# Altium schematic symbol library Resistor^Capacitor^Inductor.SchLib: 27 symbols
Pins are listed as number, name and electrical type; pins without a type are passive.

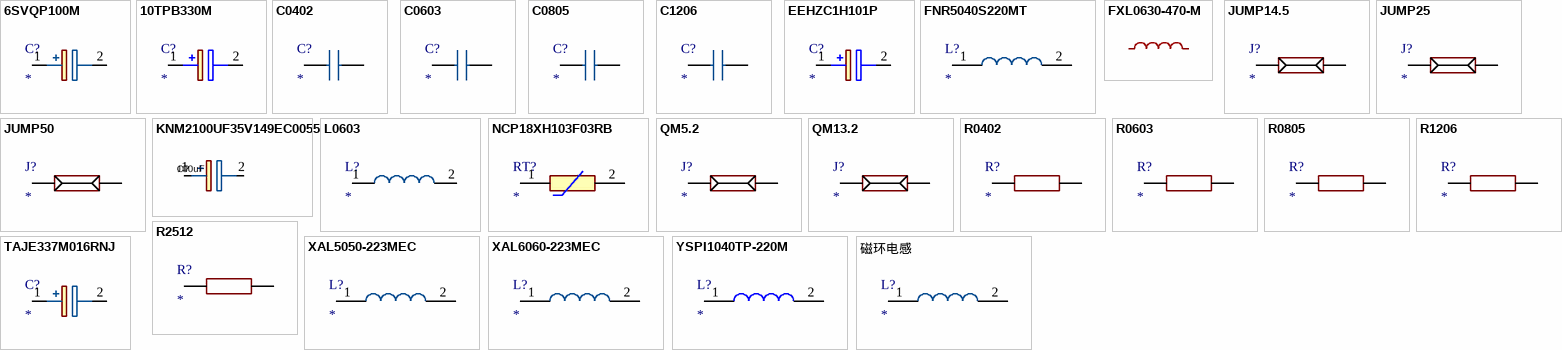
[diagram p0: symbols 6SVQP100M to 磁环电感]

## 6SVQP100M
designator C?
Capacitor Polarised; Manufacturer_Name: Panasonic; Manufacturer_Part_Number: 6SVQP100M; Datasheet Link: http://industrial.panasonic.com/cdbs/www-data/pdf/AAB8000/AAB8000C225.pdf; Height: 6mm; Mouser Part Number: 667-6SVQP100M; Mouser Price/Stock: https://www.mouser.co.uk/ProductDetail/Panasonic/6SVQP100M?qs=Gd3Cm49KlLNMtA4%252BBRbdEg%3D%3D; Arrow Part Number: 6SVQP100M; Arrow Price/Stock: https://www.arrow.com/en/products/6svqp100m/panasonic?region=nac
footprint 16SVF180M (Footprint not found)
pins: 1 +, 2 -

## 10TPB330M
designator C?
Capacitor Polarised; Manufacturer_Name: Panasonic; Manufacturer_Part_Number: 10TPB330M; Datasheet Link: http://industrial.panasonic.com/cdbs/www-data/pdf/AAA8000/AAA8000C65.pdf; Mouser Part Number: 667-10TPB330M; Mouser Price/Stock: https://www.mouser.co.uk/ProductDetail/Panasonic/10TPB330M?qs=OE1iw1LrrPGJ%2FhG9UwG4gg%3D%3D; Arrow Part Number: 10TPB330M; Arrow Price/Stock: https://www.arrow.com/en/products/10tpb330m/panasonic?region=nac
footprint POSCAP_D12_D15_D15E_D2E_D2_D3L_D4
pins: 1 +, 2 -

## C0402
designator C?
Capacitor; Manufacturer_Name: YAGEO; Manufacturer_Part_Number: CC0402KRX7R7BB104; Datasheet Link: https://www.yageo.com/en/Chart/Download/pdf/CC0402KRX7R7BB104; Height: 0.55mm; Mouser Part Number: 603-CC402KRX7R7BB104; Mouser Price/Stock: https://www.mouser.co.uk/ProductDetail/YAGEO/CC0402KRX7R7BB104?qs=AgBp2OyFlx%252BSOyhfyS7hpw%3D%3D; Arrow Part Number: CC0402KRX7R7BB104; Arrow Price/Stock: https://www.arrow.com/en/products/cc0402krx7r7bb104/yageo?region=nac
footprint CAPC1005X55N
pins: 1, 2

## C0603
designator C?
Capacitor; Manufacturer_Name: YAGEO; Manufacturer_Part_Number: CC0603KRX7R9BB104; Datasheet Link: https://componentsearchengine.com/Datasheets/2/CC0603KRX7R9BB104.pdf; Height: 0.9mm; Mouser Part Number: 603-CC603KRX7R9BB104; Mouser Price/Stock: https://www.mouser.co.uk/ProductDetail/YAGEO/CC0603KRX7R9BB104?qs=vTakOoo5QyLvVCYM2ge8LQ%3D%3D; Arrow Part Number: CC0603KRX7R9BB104; Arrow Price/Stock: https://www.arrow.com/en/products/cc0603krx7r9bb104/yageo?region=europe
footprint CAPC1608X90N
pins: 1, 2

## C0805
designator C?
Capacitor; Manufacturer_Name: YAGEO; Manufacturer_Part_Number: CC0805KRX7R9BB104; Datasheet Link: https://www.yageo.com/upload/media/product/productsearch/datasheet/mlcc/UPY-GPHC_X7R_6.3V-to-50V_20.pdf; Height: 0.95mm; Mouser Part Number: 603-CC805KRX7R9BB104; Mouser Price/Stock: https://www.mouser.co.uk/ProductDetail/YAGEO/CC0805KRX7R9BB104?qs=vTakOoo5QyLx0lXWgVtRhQ%3D%3D; Arrow Part Number: CC0805KRX7R9BB104; Arrow Price/Stock: https://www.arrow.com/en/products/cc0805krx7r9bb104/yageo?region=nac
footprint CAPC2012X95N
pins: 1, 2

## C1206
designator C?
Capacitor; Manufacturer_Name: YAGEO; Manufacturer_Part_Number: CC1206KRX7R9BB104; Datasheet Link: https://www.yageo.com/upload/media/product/productsearch/datasheet/mlcc/UPY-GPHC_X7R_6.3V-to-50V_20.pdf; Height: 0.95mm; Mouser Part Number: 603-CC206KRX7R9BB104; Mouser Price/Stock: https://www.mouser.co.uk/ProductDetail/YAGEO/CC1206KRX7R9BB104?qs=AgBp2OyFlx9LH1KRd7TZVQ%3D%3D; Arrow Part Number: CC1206KRX7R9BB104; Arrow Price/Stock: https://www.arrow.com/en/products/cc1206krx7r9bb104/yageo?utm_currency=USD&region=nac
footprint CAPC3216X95N
pins: 1, 2

## EEHZC1H101P
designator C?
Capacitor Polarised; Manufacturer_Name: Panasonic; Manufacturer_Part_Number: EEHZC1H101P; Datasheet Link: http://industrial.panasonic.com/cdbs/www-data/pdf/RDD0000/ABA0000C1234.pdf; Height: 10.5mm; Arrow Part Number: EEHZC1H101P; Arrow Price/Stock: https://www.arrow.com/en/products/eeh-zc1h101p/panasonic?utm_currency=USD&region=europe
footprint EEHZS1H221P
pins: 1 +, 2 -

## FNR5040S220MT
designator L?
Inductor; Manufacturer_Name: cjiang(Changjiang Microelectronics Tech); Manufacturer_Part_Number: FNR5040S2R2MT; Datasheet Link: https://datasheet.lcsc.com/szlcsc/1809181812_cjiang-Changjiang-Microelectronics-Tech-FNR5040S681MT_C167986.pdf; Height: 4mm
footprint FNR5040S2R2MT (Footprint not found)
pins: 1, 2

## FXL0630-470-M
designator L??, comment 47uH  (value not drawn)
Manufacturer: cjiang(长江微电); Symbol: FXL0630-470-M; Add into BOM: yes; Tolerance: ±20%; Rated Current: 1.5A; Saturation Current (Isat): 2A; DC Resistance (DCR): 385mΩ; Type: 一体成型电感; Device: FXL0630-470-M; LCSC Part Name: 47uH ±20% 2A; Supplier Part: C475913; Manufacturer Part: FXL0630-470-M; Supplier Footprint: SMD,6.6x7mm; JLCPCB Part Class: Extended Part; Datasheet: https://atta.szlcsc.com/upload/public/pdf/source/20240426/3189EA8206330E2108542F9E34E540E7.pdf; Supplier: LCSC; Convert to PCB: yes; Value: 47uH
footprint IND-SMD_L7.0-W6.6_FXL0630
pins: 1, 2

## JUMP14.5
designator J?
footprint JUMP14.5
pins: 1, 2

## JUMP25
designator J?
footprint JUMP25_Au
pins: 1, 2

## JUMP50
designator J?
footprint JUMP50
pins: 1, 2

## KNM2100UF35V149EC0055
designator C?, comment 100uF
Manufacturer: KNSCHA(科尼盛); Symbol: KNM2100UF35V149EC0055; Add into BOM: yes; Tolerance: ±20%; Rated Voltage: 35V; Ripple Current: 1.516A@100kHz; Equivalent Series Resistance(ESR): 80mΩ@100kHz; φD: 6.3mm; L: 7mm; Lifetime @ Temp: 2000hrs@105℃; Device: KNM2100UF35V149EC0055; LCSC Part Name: 100uF ±20% 35V; Supplier Part: C2982822; Manufacturer Part: KNM2100UF35V149EC0055; Supplier Footprint: SMD,D6.3xL7mm; JLCPCB Part Class: Extended Part; Datasheet: https://atta.szlcsc.com/upload/public/pdf/source/20220426/5696DDB0B22BE88A3CF8D074D2573DF7.pdf; Supplier: LCSC; Convert to PCB: yes; Value: 100uF; Lead Spacing: 2.5mm; Operating Temperature: -55℃~+105℃
footprint 16SVF180M
pins: 1 +, 2 -

## L0603
designator L?
Inductor; Manufacturer_Name: Murata Electronics; Manufacturer_Part_Number: LQM18FN100M00D; Datasheet Link: https://psearch.en.murata.com/inductor/product/LQM18FN100M00%23.html; Height: 0.9mm; Mouser Part Number: 81-LQM18FN100M00D; Mouser Price/Stock: https://www.mouser.co.uk/ProductDetail/Murata-Electronics/LQM18FN100M00D?qs=2%252BM72CStpDR8E8wEVXa5xw%3D%3D; Arrow Part Number: LQM18FN100M00D; Arrow Price/Stock: https://www.arrow.com/en/products/lqm18fn100m00d/murata-manufacturing?region=nac
footprint LQM18FN100M00D (Footprint not found)
pins: 1, 2

## NCP18XH103F03RB
designator RT?
Thermistor; Manufacturer_Name: Murata Electronics; Manufacturer_Part_Number: NCP18XH103F03RB; Datasheet Link: https://componentsearchengine.com/Datasheets/2/NCP18XH103F03RB.pdf; Height: 0.95mm; Mouser Part Number: 81-NCP18XH103F03RB; Mouser Price/Stock: https://www.mouser.co.uk/ProductDetail/Murata-Electronics/NCP18XH103F03RB?qs=k3rQb2PKXqkF9YvF09qsvw%3D%3D; Arrow Part Number: NCP18XH103F03RB; Arrow Price/Stock: https://www.arrow.com/en/products/ncp18xh103f03rb/murata-manufacturing?utm_currency=USD&region=nac
footprint THRMC1608X95N
pins: 1, 2

## QM5.2
designator J?
footprint QM5.2
pins: 1, 2

## QM13.2
designator J?
footprint QM13.2
pins: 1, 2

## R0402
designator R?
Resistor; Manufacturer_Name: UNI-ROYAL(Uniroyal Elec); Manufacturer_Part_Number: 0402WGF1002TCE; Datasheet Link: https://datasheet.lcsc.com/szlcsc/Uniroyal-Elec-0402WGF1002TCE_C25744.pdf; Height: 0.4mm
footprint RESC1005X40N (Footprint not found)
pins: 1, 2

## R0603
designator R?
Resistor; Manufacturer_Name: UNI-ROYAL(Uniroyal Elec); Manufacturer_Part_Number: 0603WAF1002T5E; Datasheet Link: https://datasheet.lcsc.com/szlcsc/Uniroyal-Elec-0603WAF1002T5E_C25804.pdf; Height: 0.55mm
footprint RESC1608X55N (Footprint not found)
pins: 1, 2

## R0805
designator R?
Resistor; Manufacturer_Name: UniOhm; Manufacturer_Part_Number: 0805W8F1002T5E; Height: 0.65mm
footprint RESC2013X65N (Footprint not found)
pins: 1, 2

## R1206
designator R?
Resistor; Manufacturer_Name: UNI-ROYAL(Uniroyal Elec); Manufacturer_Part_Number: 1206W4F1002T5E; Datasheet Link: https://datasheet.lcsc.com/szlcsc/Uniroyal-Elec-1206W4F1002T5E_C17902.pdf; Height: 0.65mm
footprint RESC3116X65N (Footprint not found)
pins: 1, 2

## R2512
designator R?
Resistor
footprint RESC6432X06N__2512RES (Chip Resistor, 2-Leads, Body 6.35x3.20mm, IPC Medium Density)
pins: 1, 2

## TAJE337M016RNJ
designator C?
Capacitor Polarised; Manufacturer_Name: Kyocera AVX; Manufacturer_Part_Number: TAJE337M016RNJ; Datasheet Link: http://datasheets.avx.com/TAJ.pdf; Height: 4.3mm; Mouser Part Number: 581-TAJE337M016RNJ; Mouser Price/Stock: https://www.mouser.co.uk/ProductDetail/AVX/TAJE337M016RNJ?qs=y3iDra2JAa8YWVPUw61OpA%3D%3D; Arrow Part Number: TAJE337M016RNJ; Arrow Price/Stock: null?region=asia
footprint CAPPM7344X430N (Footprint not found)
pins: 1 +, 2 -

## XAL5050-223MEC
designator L?
Inductor; Manufacturer_Name: COILCRAFT; Manufacturer_Part_Number: XAL5050-223MEC; Datasheet Link: https://www.coilcraft.com/getmedia/49bc46c8-4b2c-45b9-9b6c-2eaa235ea698/xal50xx.pdf; Mouser Part Number: 994-XAL5050-223MEC; Mouser Price/Stock: https://www.mouser.co.uk/ProductDetail/Coilcraft/XAL5050-223MEC?qs=zCSbvcPd3pZDBbGj4RTtgg%3D%3D
footprint XAL5030
pins: 1, 2

## XAL6060-223MEC
designator L?
Inductor; Manufacturer_Name: COILCRAFT; Manufacturer_Part_Number: XAL6060-223MEC; Datasheet Link: http://www.mouser.com/datasheet/2/597/xal60xx-270658.pdf; Height: 6mm; Mouser Part Number: 994-XAL6060-223MEC; Mouser Price/Stock: https://www.mouser.co.uk/ProductDetail/Coilcraft/XAL6060-223MEC?qs=zCSbvcPd3paScsLbTnAUcA%3D%3D
footprint XAL6060822MEB
pins: 1, 2

## YSPI1040TP-220M
designator L?
Inductor; Manufacturer_Name: TSA; Manufacturer_Part_Number: SDRH104R-3R3NT; Datasheet Link: http://www.tsasun.com/uploadfile/SDRH%20Series.pdf; Height: 4.1mm
footprint SDRH104R3R3NT
pins: 1, 2

## 磁环电感
designator L?
footprint 磁环电感_卧式
pins: 1, 2